# Altium schematic symbol library 2.8inch_IPS_ESP32-S3_Display.SCHLIB: 24 symbols
Pins are listed as number, name and electrical type; pins without a type are passive.

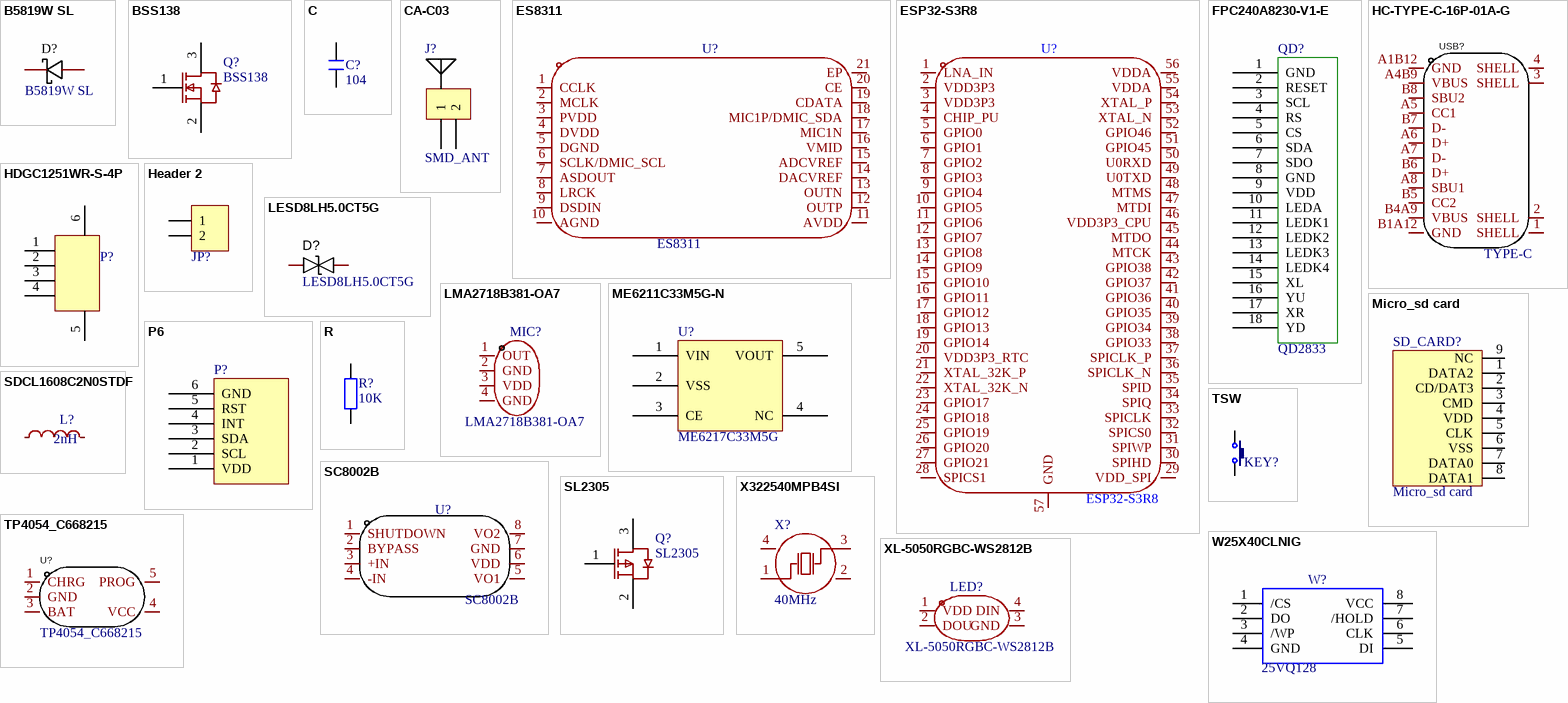
[diagram p0: symbols B5819W SL to XL-5050RGBC-WS2812B]

## B5819W SL
designator D?
Manufacturer: CJ(江苏长电/长晶); Symbol: B5819W_C8598; Add into BOM: yes; Forward Voltage (Vf@If): 600mV@1A; Reverse Voltage (Vr): 40V; Average Rectified Current (Io): 1A; Device: B5819W SL; Supplier: LCSC; Manufacturer Part: B5819W SL; Supplier Part: C8598; JLCPCB Part Class: Basic Part; LCSC Part Name: 电压:40V 电流:1A; Supplier Footprint: SOD-123; Datasheet: https://atta.szlcsc.com/upload/public/pdf/source/20171228/C164911_15144413243851213914.pdf; Convert to PCB: yes
footprint SOD-123_L2.7-W1.6-LS3.7-RD-1
pins: 1 -, 2 +

## BSS138
designator Q?
footprint SOT-23-3_L2.9-W1.3-P1.90-LS2.4-BR
pins: 1 G, 2 S, 3 D

## C
designator C?, comment 104
无极性贴片电容; 版权归属: 源创客; 材质: X7R; BOM名称: 无极性贴片电容; 学习资源: www.ooocke.com
footprint C 0603 (无极性贴片电容)
pins: 1, 2

## CA-C03
designator J?, comment SMD_ANT
陶瓷贴片天线
footprint SMD_TX
pins: 1, 2

## ES8311
designator U?
Manufacturer: Everest-semi(顺芯); Add into BOM: yes; Symbol: ES8311; Device: ES8311; LCSC Part Name: ES8311; Supplier Part: C962342; Manufacturer Part: ES8311; Supplier Footprint: WQFN-20-EP(3x3); JLCPCB Part Class: Extended Part; Datasheet: https://atta.szlcsc.com/upload/public/pdf/source/20210630/C962342_E665EAE7274179BC7C5A390EC8AC685C.pdf; Supplier: LCSC; Convert to PCB: yes
footprint WQFN-20_L3.0-W3.0-P0.40-BL-EP1.7
3D model WQFN-20_L3.0-W3.0-H0.8-P0.40-TL-EP1.7
pins: 1 CCLK, 2 MCLK, 3 PVDD, 4 DVDD, 5 DGND, 6 SCLK/DMIC_SCL, 7 ASDOUT, 8 LRCK, 9 DSDIN, 10 AGND, 11 AVDD, 12 OUTP, 13 OUTN, 14 DACVREF, 15 ADCVREF, 16 VMID, 17 MIC1N, 18 MIC1P/DMIC_SDA, 19 CDATA, 20 CE, 21 EP

## ESP32-S3R8
designator U?
Manufacturer: ESPRESSIF(乐鑫); Symbol: ESP32-S3(R8); Add into BOM: yes; Frequency Range: 2.412GHz~2.484GHz; Interface: I2C,I2S,SPI,UART,USB; Operating Voltage: 3.3V; Output Power: 21dBm; Data Rate: 150Mbps; Sensitivity: -98.4dBm; Device: ESP32-S3R8; LCSC Part Name: ESP32-S3R8; Supplier Part: C2913194; Manufacturer Part: ESP32-S3R8; Supplier Footprint: QFN-56(7x7); JLCPCB Part Class: Extended Part; Datasheet: https://atta.szlcsc.com/upload/public/pdf/source/20231007/CDA236FFCB3F25B7D5220D2CA9867287.pdf; Supplier: LCSC; Convert to PCB: yes; Applications: 蓝牙；WiFi; Operating Temperature: -40℃~+85℃
footprint QFN-56_L7.0-W7.0-P0.40-TL-EP4.0
3D model QFN-56_L7.0-W7.0-P0.40-TL-EP4.0
pins: 1 LNA_IN, 2 VDD3P3, 3 VDD3P3, 4 CHIP_PU, 5 GPIO0, 6 GPIO1, 7 GPIO2, 8 GPIO3, 9 GPIO4, 10 GPIO5, 11 GPIO6, 12 GPIO7, 13 GPIO8, 14 GPIO9, 15 GPIO10, 16 GPIO11, 17 GPIO12, 18 GPIO13, 19 GPIO14, 20 VDD3P3_RTC, 21 XTAL_32K_P, 22 XTAL_32K_N, 23 GPIO17, 24 GPIO18, 25 GPIO19, 26 GPIO20, 27 GPIO21, 28 SPICS1, 29 VDD_SPI, 30 SPIHD, 31 SPIWP, 32 SPICS0, 33 SPICLK, 34 SPIQ, 35 SPID, 36 SPICLK_N, 37 SPICLK_P, 38 GPIO33, 39 GPIO34, 40 GPIO35, 41 GPIO36, 42 GPIO37, 43 GPIO38, 44 MTCK, 45 MTDO, 46 VDD3P3_CPU, 47 MTDI, 48 MTMS, 49 U0TXD, 50 U0RXD, 51 GPIO45, 52 GPIO46, 53 XTAL_N, 54 XTAL_P, 55 VDDA, 56 VDDA, 57 GND

## FPC240A8230-V1-E
designator QD?, comment QD2833
footprint QD-TFT2803
pins: 1 GND, 2 RESET, 3 SCL, 4 RS, 5 CS, 6 SDA, 7 SDO, 8 GND, 9 VDD, 10 LEDA, 11 LEDK1, 12 LEDK2, 13 LEDK3, 14 LEDK4, 15 XL, 16 YU, 17 XR, 18 YD

## HC-TYPE-C-16P-01A-G
designator USB?, comment TYPE-C
Manufacturer: HCTL(华灿天禄); Name: HC-TYPE-C-16P-01A-G; Add into BOM: yes; Gender: 母座; Number of Contacts: 16; Number of Ports: 1; Symbol: HC-TYPE-C-16P-01A-G; Device: HC-TYPE-C-16P-01A-G; LCSC Part Name: Type-C 母座 卧贴; Supplier Part: C2997435; Manufacturer Part: HC-TYPE-C-16P-01A-G; Supplier Footprint: SMD; JLCPCB Part Class: Extended Part; Datasheet: https://atta.szlcsc.com/upload/public/pdf/source/20220415/23B51DCADC5F28223C40C3605487ACA1.pdf; Supplier: LCSC; Convert to PCB: yes; Connector Type: Type-C; Mounting Style: 卧贴
3D model USB-C-SMD_G-SWITCH_GT-USB-7010EN
footprint USB-C-SMD_G-SWITCH_GT-USB-7010EN
footprint USB-C-SMD_G-SWITCH_GT-USB-7010EN
pins: 1 SHELL, 2 SHELL, 3 SHELL, 4 SHELL, A1B12 GND, A4B9 VBUS, A5 CC1, A6 D+, A7 D-, A8 SBU1, B1A12 GND, B4A9 VBUS, B5 CC2, B6 D+, B7 D-, B8 SBU2

## HDGC1251WR-S-4P
designator P?  (value not drawn)
footprint CONN-SMD_4P-P1.25_HDGC-HDGC1251WR-S-4P
pins: 1, 2, 3, 4, 5, 6

## Header 2
designator JP?  (value not drawn)
2P接插件; BOM名称: 20*2P接插件; 版权归属: 源创客; 学习资源: www.ooocke.com
footprint CONN-SMD_2P-P1.25-HC-1.25-2PWT
pins: 1, 2

## LESD8LH5.0CT5G
designator D?
Manufacturer: LRC(乐山无线电); Add into BOM: yes; Reverse Stand-Off Voltage (Vrwm): 5V; Maximum Clamping Voltage: 11.5V; Peak Pulse Current (Ipp)@10/1000us: 3.5A@8/20us; Breakdown Voltage: 5.5V; Type: TVS; Symbol: LESD8LH5.0CT5G; Device: LESD8LH5.0CT5G; LCSC Part Name: LESD8LH5.0CT5G; Supplier Part: C172420; Manufacturer Part: LESD8LH5.0CT5G; Supplier Footprint: SOD-882; JLCPCB Part Class: Extended Part; Datasheet: https://atta.szlcsc.com/upload/public/pdf/source/20180130/C172420_15172974281521323449.pdf; Supplier: LCSC; Convert to PCB: yes
footprint SOD-882_L1.0-W0.6-BI
pins: 1, 2

## LMA2718B381-OA7
designator MIC?
Manufacturer: LinkMems(聆麦声学); Add into BOM: yes; Direction: 全指向; Voltage - Supply: 1.6V~3.6V; Current Consumption: 120uA; S/N Ratio: 60dB; Sensitivity: -38dB; Impedance: 300Ω; Symbol: LMA2718B381-OA7; Device: LMA2718B381-OA7; LCSC Part Name: MEMSmic硅麦2718 下进音 s-38db±1 3pin; Supplier Part: C5373222; Manufacturer Part: LMA2718B381-OA7; Supplier Footprint: SMD-4P,2.8x1.9mm; JLCPCB Part Class: Extended Part; Datasheet: https://atta.szlcsc.com/upload/public/pdf/source/20240604/0A5C3EA04FD2F1051B7E5AD1641C61F9.pdf; Supplier: LCSC; Convert to PCB: yes
footprint MIC-SMD_4P-L2.8-W1.9_LMA2718B381-OA7
3D model MIC-SMD_4P-L2.8-W1.9_LMA2718B381-OA7
pins: 1 OUT, 2 GND, 3 VDD, 4 GND

## ME6211C33M5G-N
designator U?, comment ME6217C33M5G
稳压芯片
footprint SOT-23-5_L3.0-W1.7-P0.95-LS2.8-BL
pins: 1 VIN, 2 VSS, 3 CE, 4 NC, 5 VOUT

## Micro_sd card
designator SD_CARD?
miniSD卡卡槽
footprint MicroTF
pins: 1 DATA2, 2 CD/DAT3, 3 CMD, 4 VDD, 5 CLK, 6 VSS, 7 DATA0, 8 DATA1, 9 NC

## P6
designator P?  (value not drawn)
P
footprint P6 (FPC_CONNECTOR)
pins: 1 VDD, 2 SCL, 3 SDA, 4 INT, 5 RST, 6 GND

## R
designator R?, comment 10K
贴片电阻; 版权归属: 源创客; BOM名称: 贴片电阻; 学习资源: www.ooocke.com
footprint R0603
pins: 1, 2

## SC8002B
designator U?
Manufacturer: FM(富满); Add into BOM: yes; Speaker Channels: 单声道; Output Power: 2.5Wx1@4Ω; Supply Voltage: 2V~5V; Symbol: SC8002B; Device: SC8002B; LCSC Part Name: SC8002B; Supplier Part: C82124; Manufacturer Part: SC8002B; Supplier Footprint: SOP-8; JLCPCB Part Class: Extended Part; Datasheet: https://atta.szlcsc.com/upload/public/pdf/source/20180404/C82124_A098B0D41B54F1DA43A0B2949153E019.pdf; Supplier: LCSC; Convert to PCB: yes; Type of Power Amplifier: -
footprint SOP-8_L4.9-W3.9-P1.27-LS6.0-BL
pins: 1 SHUTDOWN, 2 BYPASS, 3 +IN, 4 -IN, 5 VO1, 6 VDD, 7 GND, 8 VO2

## SDCL1608C2N0STDF
designator L?, comment 2nH
Manufacturer: Sunlord(顺络); Symbol: SDCL1608C2N0STDF_C370234; Device: SDCL1608C2N0STDF; Add into BOM: yes; LCSC Part Name: 2nH; Supplier Part: C370234; Manufacturer Part: SDCL1608C2N0STDF; Supplier Footprint: 0603; JLCPCB Part Class: Extended Part; Datasheet: https://atta.szlcsc.com/upload/public/pdf/source/20231027/6126A3AAC5912C34388756BE22DEE00C.pdf; Supplier: LCSC; Convert to PCB: yes; Value: 2nH; Rated Current: -; Current - Saturation (Isat): -; DC Resistance(DCR): -; Q @ Frequency: -; Frequency - Self Resonant: -; Ratings: -
footprint L0603
3D model L0603_L1.6-W0.8-H0.5_BEAD
pins: 1, 2

## SL2305
designator Q?
P-mos
footprint SOT-23
pins: 1 G, 2 S, 3 D

## TP4054_C668215
designator U?
Manufacturer: UMW(友台半导体); Manufacturer Part: TP4054; Add into BOM: yes; Supply Voltage: 6.5V; Maximum Charge Current: 500mA; Type of Battery: 锂离子/聚合物; Number of Cells: 1; Symbol: TP4054_C668215; Device: TP4054_C668215; LCSC Part Name: TP4054; Supplier Part: C668215; Supplier Footprint: SOT-23-5L; JLCPCB Part Class: Extended Part; Datasheet: https://atta.szlcsc.com/upload/public/pdf/source/20231109/1E60770826C4E1A0E5898BBC08FF3A57.pdf; Supplier: LCSC; Convert to PCB: yes; Operating Temperature: -40℃~+85℃
footprint TSOT-23-5_L2.9-W1.6-P0.95-LS2.8-BR
pins: 1 CHRG, 2 GND, 3 BAT, 4 VCC, 5 PROG

## TSW
designator KEY?, comment 3x6x5  (value not drawn)
轻触开关; BOM名称: 3x6轻触开关; 版权归属: 源创客; 学习资源: www.ooocke.com
footprint TSW SMD-3*4*2.5 (3*4*2.5mm)
pins: 1, 2

## W25X40CLNIG
designator W?, comment 25VQ128
footprint SO8
footprint SOP-8
footprint SOP8W_L (5.3*8.3*1.8mm（长宽高）)
pins: 1 /CS, 2 DO, 3 /WP, 4 GND, 5 DI, 6 CLK, 7 /HOLD, 8 VCC

## X322540MPB4SI
designator X?, comment 40MHz
Manufacturer: YXC(扬兴晶振); Symbol: X322540MPB4SI; Add into BOM: yes; Crystal Type: 贴片晶振; Normal temperature Frequency Tolerance: ±10ppm; External load capacitor: 15pF; Frequency Stability(Full temperature range): ±20ppm; Device: X322540MPB4SI; LCSC Part Name: 40MHz ±10ppm 15pF; Supplier Part: C9010; Manufacturer Part: X322540MPB4SI; Supplier Footprint: SMD3225-4P; JLCPCB Part Class: Extended Part; Datasheet: https://atta.szlcsc.com/upload/public/pdf/source/20240329/19D5F850207469550BEB00D7DFEDBC7A.pdf; Supplier: LCSC; Convert to PCB: yes; Value: 40MHz; Operating Temperature: -40℃~+85℃
footprint OSC-SMD_4P-L3.2-W2.5-BL_SIT8008BI
3D model OSC-SMD_4P-L3.2-W2.5-H1.0
footprint crystal3225
footprint OSC-SMD_4P-L3.2-W2.5-BL_SIT8008BI
pins: 1 OSC1, 2 GND, 3 OSC2, 4 GND

## XL-5050RGBC-WS2812B
designator LED?
Manufacturer: XINGLIGHT(成兴光); Add into BOM: yes; Symbol: XL-5050RGBC-WS2812B; Device: XL-5050RGBC-WS2812B; LCSC Part Name: XL-5050RGBC-WS2812B; Supplier Part: C2843785; Manufacturer Part: XL-5050RGBC-WS2812B; Supplier Footprint: SMD5050; JLCPCB Part Class: Extended Part; Datasheet: https://atta.szlcsc.com/upload/public/pdf/source/20240412/E1004CAA80592E31D08BFE019083806F.pdf; Supplier: LCSC; Convert to PCB: yes
footprint LED-SMD_4P-L5.0-W5.0-BL_XL-5050RGBC
3D model LED-SMD_4P-L5.0-W5.0-BL_XL-5050RGBC
pins: 1 VDD, 2 DOU, 3 GND, 4 DIN